# EAGLE library part BT-M326RD (library X893)
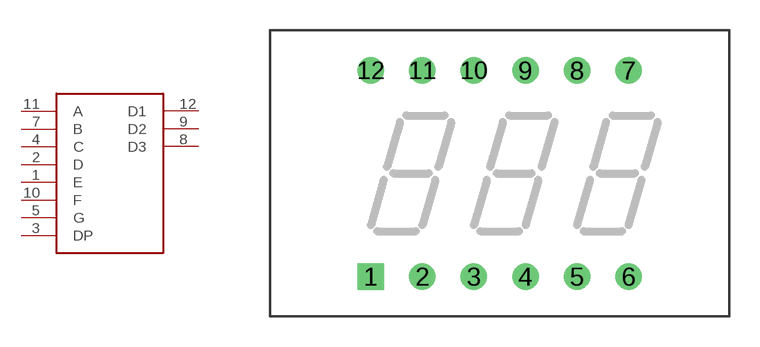
[diagram p128: symbol with the pads of BT-M326RD; footprint BT-M326RD]

Designator prefix -

## BT-M326RD  [BT-M326RD]
1  E  pas
2  D  pas
3  DP  pas
4  C  pas
5  G  pas
7  B  pas
8  D3  pas
9  D2  pas
10  F  pas
11  A  pas
12  D1  pas

## Footprint BT-M326RD (pad centres in mm)
drill 0.8 square: 1 -6.35,-5.08
drill 0.8: 2 -3.81,-5.08; 3 -1.27,-5.08; 4 1.27,-5.08; 5 3.81,-5.08; 6 6.35,-5.08; 7 6.35,5.08; 8 3.81,5.08; 9 1.27,5.08; 10 -1.27,5.08; 11 -3.81,5.08; 12 -6.35,5.08